# EAGLE library part NRF52832MODULE (library nrf52832module)
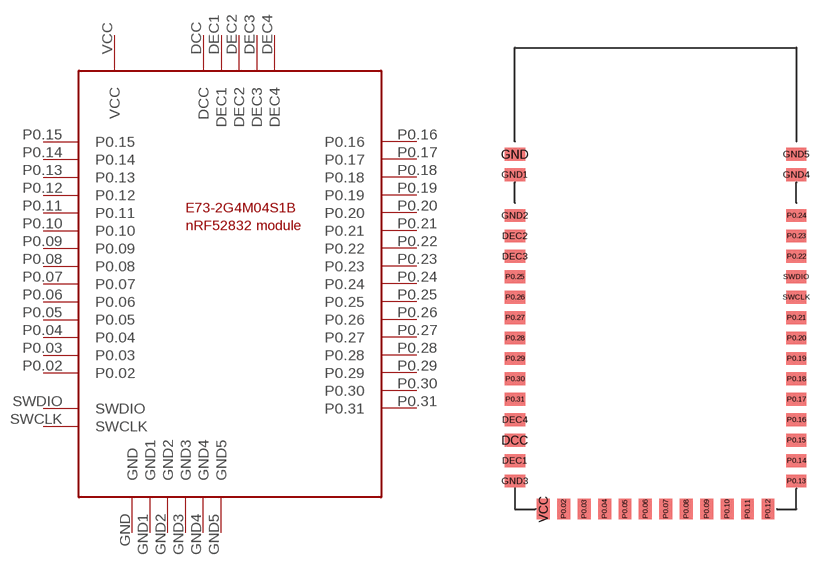
[diagram p0: symbol with the pads of NRF52832MODULE; footprint NRF52832MODULE]

Designator prefix -

## NRF52832MODULE  [NRF52832MODULE]
DCC  DCC
DEC1  DEC1
DEC2  DEC2
DEC3  DEC3
DEC4  DEC4
GND  GND
GND1  GND1
GND2  GND2
GND3  GND3
GND4  GND4
GND5  GND5
P0.02  P0.02
P0.03  P0.03
P0.04  P0.04
P0.05  P0.05
P0.06  P0.06
P0.07  P0.07
P0.08  P0.08
P0.09  P0.09
P0.10  P0.10
P0.11  P0.11
P0.12  P0.12
P0.13  P0.13
P0.14  P0.14
P0.15  P0.15
P0.16  P0.16
P0.17  P0.17
P0.18  P0.18
P0.19  P0.19
P0.20  P0.20
P0.21  P0.21
P0.22  P0.22
P0.23  P0.23
P0.24  P0.24
P0.25  P0.25
P0.26  P0.26
P0.27  P0.27
P0.28  P0.28
P0.29  P0.29
P0.30  P0.30
P0.31  P0.31
SWCLK  SWCLK
SWDIO  SWDIO
VCC  VCC

## Footprint NRF52832MODULE (pad centres in mm)
E73-2G4M04S1B nRF52832 Module
smd 1.27 x 0.8: DCC 0,4.29; DEC1 0,3.02; DEC2 0,16.99; DEC3 0,15.72; DEC4 0,5.56; GND 0,22.07; GND1 0,20.8; GND2 0,18.26; GND3 0,1.75; GND4 17.5,20.8; GND5 17.5,22.07; P0.13 17.5,1.75; P0.14 17.5,3.02; P0.15 17.5,4.29; P0.16 17.5,5.56; P0.17 17.5,6.83; P0.18 17.5,8.1; P0.19 17.5,9.37; P0.20 17.5,10.64; P0.21 17.5,11.91; P0.22 17.5,15.72; P0.23 17.5,16.99; P0.24 17.5,18.26; P0.25 0,14.45; P0.26 0,13.18; P0.27 0,11.91; P0.28 0,10.64; P0.29 0,9.37; P0.30 0,8.1; P0.31 0,6.83; SWCLK 17.5,13.18; SWDIO 17.5,14.45
smd 0.8 x 1.27: P0.02 3.04,0; P0.03 4.31,0; P0.04 5.58,0; P0.05 6.85,0; P0.06 8.12,0; P0.07 9.39,0; P0.08 10.66,0; P0.09 11.93,0; P0.10 13.2,0; P0.11 14.47,0; P0.12 15.74,0; VCC 1.77,0